# EAGLE library part MIC4680-3.3YM (library kwoo)
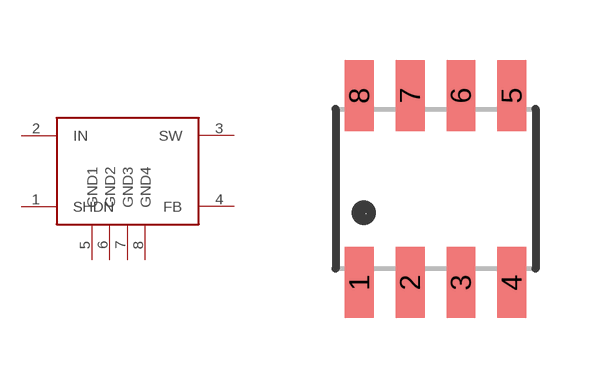
[diagram p54: symbol with the pads of 8-SOIC; footprint 8-SOIC]

Designator prefix -

## MIC4680-3.3YM  [8-SOIC]
1  SHDN
2  IN
3  SW
4  FB
5  GND1
6  GND2
7  GND3
8  GND4

## Footprint 8-SOIC (pad centres in mm)
smd 0.72 x 1.78: 1 -1.905,-2.34; 2 -0.635,-2.34; 3 0.635,-2.34; 4 1.905,-2.34; 5 1.905,2.34; 6 0.635,2.34; 7 -0.635,2.34; 8 -1.905,2.34